# Altium schematic symbol library kmilo17pet-NSC_MiscPower.SchLib: 1552 symbols (part 22 of 43)
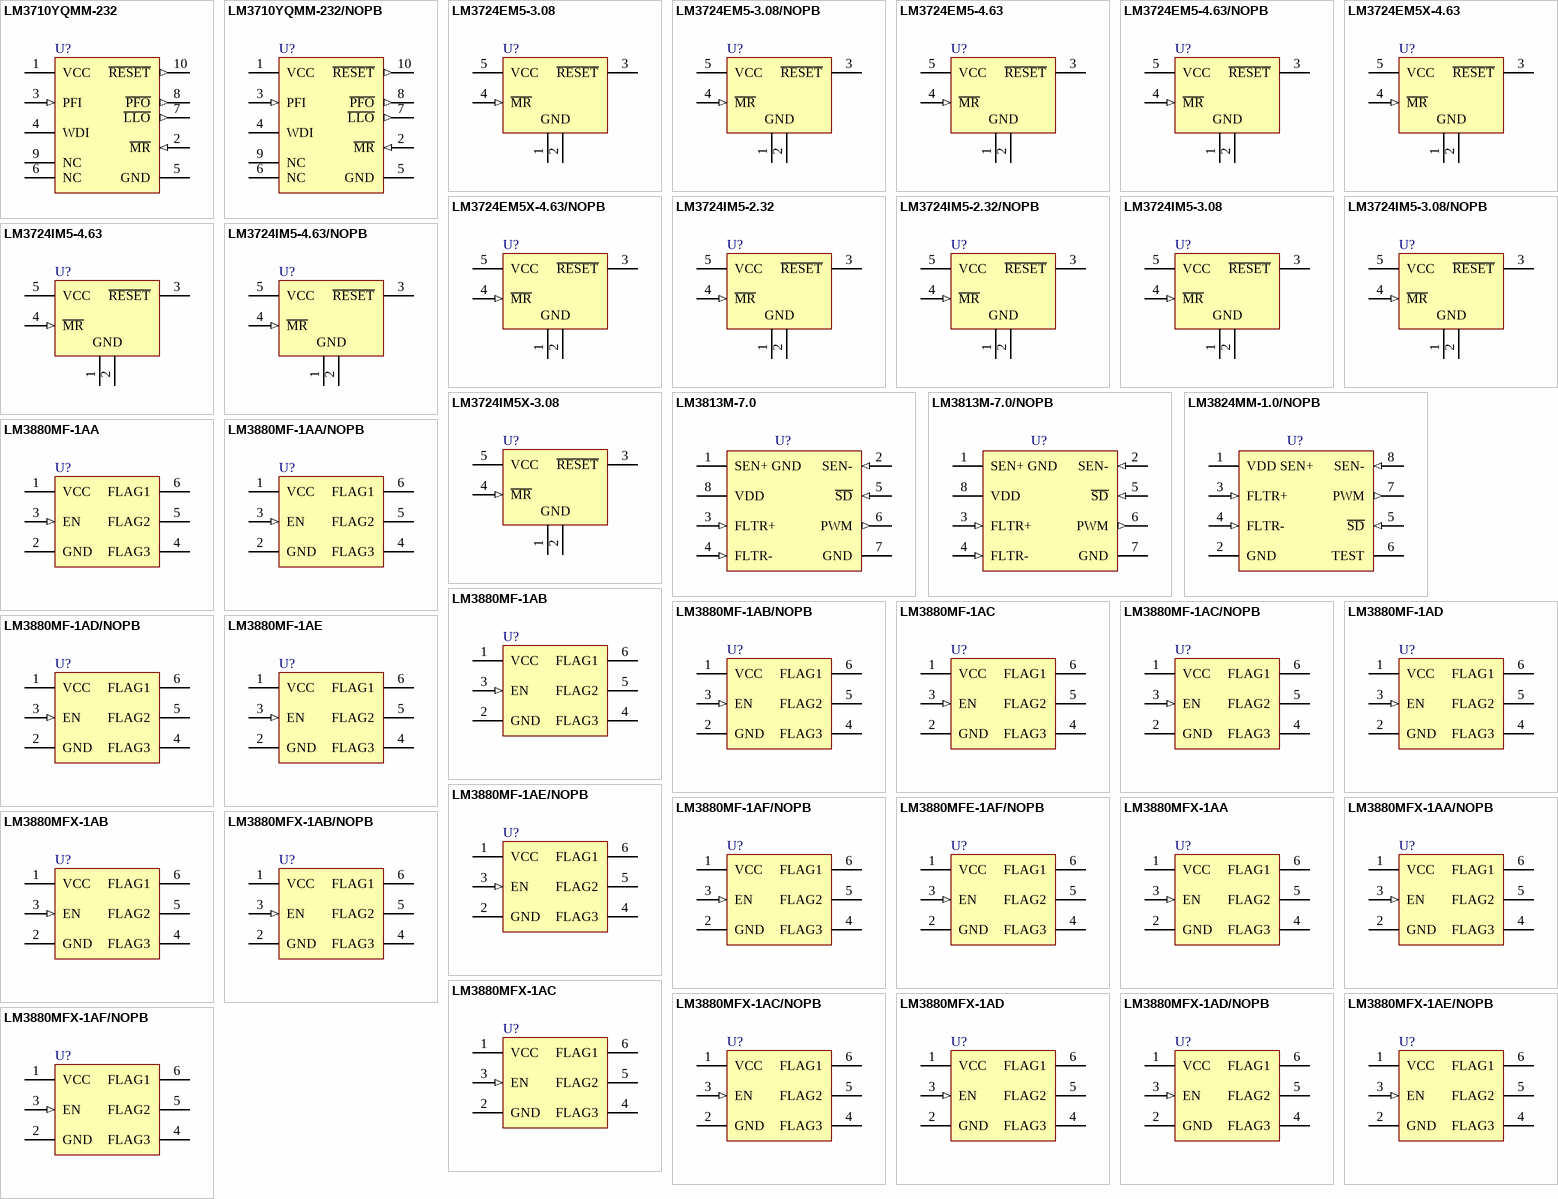
[diagram p78: symbols LM3710YQMM-232 to LM3880MFX-1AF/NOPB]

## LM3724EM5-4.63
designator U?
Microprocessor Reset Circuits, 5-pin SOT-23; PartNumber: LM3724EM5-4.63; Manufacturer: National Semiconductor; PackageTopMarking: R62B*XTT; PowerWise: N; CompType: MiscPower; High-Reliability: Y; DatasheetVersion: Jul-2007; PackageVersion: revD, Aug-2008; PackageReference: MF05A; PackageDescription: Molded SOT-23, .115 x .063 x .040 in Body, 5 Lead, .0375 in Pitch; RoHS: N; PinCount: 5; ComponentLink1Description: Manufacturer URL; ComponentLink1URL: http://www.national.com/; ComponentLink2Description: LM3724 Datasheet; ComponentLink2URL: http://www.national.com/ds/LM/LM3724.pdf; ComponentLink3Description: LM3724 Web Page; ComponentLink3URL: http://www.national.com/pf/LM/LM3724.html; ComponentLink4Description: MF05A Package Page; ComponentLink4URL: http://www.national.com/packaging/folders/mf05a.html
footprint MF05A_N (SOT23, 5-Leads, Body 2.9x1.6mm, Pitch 0.95mm, Lead Span 2.8mm, IPC Medium Density)
footprint MF05A_L (SOT23, 5-Leads, Body 2.9x1.6mm, Pitch 0.95mm, Lead Span 2.8mm, IPC High Density)
footprint MF05A_M (SOT23, 5-Leads, Body 2.9x1.6mm, Pitch 0.95mm, Lead Span 2.8mm, IPC Low Density)
pins: 1 GND (power), 2 GND (power), 3 ~{RESET} (oc), 4 ~{MR} (in), 5 VCC (power)

## LM3724EM5-4.63/NOPB
designator U?
5-Pin Microprocessor Reset Circuits, 5-pin SOT-23, Pb-Free; PartNumber: LM3724EM5-4.63/NOPB; Manufacturer: National Semiconductor; PackageTopMarking: R62B*XTT; PowerWise: N; CompType: MiscPower; High-Reliability: Y; DatasheetVersion: Jul-2007; PackageVersion: revD, Aug-2008; PackageReference: MF05A; PackageDescription: Molded SOT-23, .115 x .063 x .040 in Body, 5 Lead, .0375 in Pitch; RoHS: Y; PinCount: 5; ComponentLink1Description: Manufacturer URL; ComponentLink1URL: http://www.national.com/; ComponentLink2Description: LM3724 Datasheet; ComponentLink2URL: http://www.national.com/ds/LM/LM3724.pdf; ComponentLink3Description: LM3724 Web Page; ComponentLink3URL: http://www.national.com/pf/LM/LM3724.html; ComponentLink4Description: MF05A Package Page; ComponentLink4URL: http://www.national.com/packaging/folders/mf05a.html
footprint MF05A_N (SOT23, 5-Leads, Body 2.9x1.6mm, Pitch 0.95mm, Lead Span 2.8mm, IPC Medium Density)
footprint MF05A_L (SOT23, 5-Leads, Body 2.9x1.6mm, Pitch 0.95mm, Lead Span 2.8mm, IPC High Density)
footprint MF05A_M (SOT23, 5-Leads, Body 2.9x1.6mm, Pitch 0.95mm, Lead Span 2.8mm, IPC Low Density)
pins: 1 GND (power), 2 GND (power), 3 ~{RESET} (oc), 4 ~{MR} (in), 5 VCC (power)

## LM3724EM5X-4.63
designator U?
5-Pin Microprocessor Reset Circuits, 5-pin SOT-23; PartNumber: LM3724EM5X-4.63; Manufacturer: National Semiconductor; PackageTopMarking: R62B*XTT; PowerWise: N; CompType: MiscPower; High-Reliability: Y; DatasheetVersion: Jul-2007; PackageVersion: revD, Aug-2008; PackageReference: MF05A; PackageDescription: Molded SOT-23, .115 x .063 x .040 in Body, 5 Lead, .0375 in Pitch; RoHS: N; PinCount: 5; ComponentLink1Description: Manufacturer URL; ComponentLink1URL: http://www.national.com/; ComponentLink2Description: LM3724 Datasheet; ComponentLink2URL: http://www.national.com/ds/LM/LM3724.pdf; ComponentLink3Description: LM3724 Web Page; ComponentLink3URL: http://www.national.com/pf/LM/LM3724.html; ComponentLink4Description: MF05A Package Page; ComponentLink4URL: http://www.national.com/packaging/folders/mf05a.html
footprint MF05A_N (SOT23, 5-Leads, Body 2.9x1.6mm, Pitch 0.95mm, Lead Span 2.8mm, IPC Medium Density)
footprint MF05A_L (SOT23, 5-Leads, Body 2.9x1.6mm, Pitch 0.95mm, Lead Span 2.8mm, IPC High Density)
footprint MF05A_M (SOT23, 5-Leads, Body 2.9x1.6mm, Pitch 0.95mm, Lead Span 2.8mm, IPC Low Density)
pins: 1 GND (power), 2 GND (power), 3 ~{RESET} (oc), 4 ~{MR} (in), 5 VCC (power)

## LM3724EM5X-4.63/NOPB
designator U?
5-Pin Microprocessor Reset Circuits, 5-pin SOT-23, Pb-Free; PartNumber: LM3724EM5X-4.63/NOPB; Manufacturer: National Semiconductor; PackageTopMarking: R62B*XTT; PowerWise: N; CompType: MiscPower; High-Reliability: Y; DatasheetVersion: Jul-2007; PackageVersion: revD, Aug-2008; PackageReference: MF05A; PackageDescription: Molded SOT-23, .115 x .063 x .040 in Body, 5 Lead, .0375 in Pitch; RoHS: Y; PinCount: 5; ComponentLink1Description: Manufacturer URL; ComponentLink1URL: http://www.national.com/; ComponentLink2Description: LM3724 Datasheet; ComponentLink2URL: http://www.national.com/ds/LM/LM3724.pdf; ComponentLink3Description: LM3724 Web Page; ComponentLink3URL: http://www.national.com/pf/LM/LM3724.html; ComponentLink4Description: MF05A Package Page; ComponentLink4URL: http://www.national.com/packaging/folders/mf05a.html
footprint MF05A_N (SOT23, 5-Leads, Body 2.9x1.6mm, Pitch 0.95mm, Lead Span 2.8mm, IPC Medium Density)
footprint MF05A_L (SOT23, 5-Leads, Body 2.9x1.6mm, Pitch 0.95mm, Lead Span 2.8mm, IPC High Density)
footprint MF05A_M (SOT23, 5-Leads, Body 2.9x1.6mm, Pitch 0.95mm, Lead Span 2.8mm, IPC Low Density)
pins: 1 GND (power), 2 GND (power), 3 ~{RESET} (oc), 4 ~{MR} (in), 5 VCC (power)

## LM3724IM5-2.32
designator U?
Microprocessor Reset Circuits, 5-pin SOT-23; PartNumber: LM3724IM5-2.32; Manufacturer: National Semiconductor; PackageTopMarking: R50B*XTT; PowerWise: N; CompType: MiscPower; High-Reliability: Y; DatasheetVersion: Jul-2007; PackageVersion: revD, Aug-2008; PackageReference: MF05A; PackageDescription: Molded SOT-23, .115 x .063 x .040 in Body, 5 Lead, .0375 in Pitch; RoHS: N; PinCount: 5; ComponentLink1Description: Manufacturer URL; ComponentLink1URL: http://www.national.com/; ComponentLink2Description: LM3724 Datasheet; ComponentLink2URL: http://www.national.com/ds/LM/LM3724.pdf; ComponentLink3Description: LM3724 Web Page; ComponentLink3URL: http://www.national.com/pf/LM/LM3724.html; ComponentLink4Description: MF05A Package Page; ComponentLink4URL: http://www.national.com/packaging/folders/mf05a.html
footprint MF05A_N (SOT23, 5-Leads, Body 2.9x1.6mm, Pitch 0.95mm, Lead Span 2.8mm, IPC Medium Density)
footprint MF05A_L (SOT23, 5-Leads, Body 2.9x1.6mm, Pitch 0.95mm, Lead Span 2.8mm, IPC High Density)
footprint MF05A_M (SOT23, 5-Leads, Body 2.9x1.6mm, Pitch 0.95mm, Lead Span 2.8mm, IPC Low Density)
pins: 1 GND (power), 2 GND (power), 3 ~{RESET} (oc), 4 ~{MR} (in), 5 VCC (power)

## LM3724IM5-2.32/NOPB
designator U?
5-Pin Microprocessor Reset Circuits, 5-pin SOT-23, Pb-Free; PartNumber: LM3724IM5-2.32/NOPB; Manufacturer: National Semiconductor; PackageTopMarking: R50B*XTT; PowerWise: N; CompType: MiscPower; High-Reliability: Y; DatasheetVersion: Jul-2007; PackageVersion: revD, Aug-2008; PackageReference: MF05A; PackageDescription: Molded SOT-23, .115 x .063 x .040 in Body, 5 Lead, .0375 in Pitch; RoHS: Y; PinCount: 5; ComponentLink1Description: Manufacturer URL; ComponentLink1URL: http://www.national.com/; ComponentLink2Description: LM3724 Datasheet; ComponentLink2URL: http://www.national.com/ds/LM/LM3724.pdf; ComponentLink3Description: LM3724 Web Page; ComponentLink3URL: http://www.national.com/pf/LM/LM3724.html; ComponentLink4Description: MF05A Package Page; ComponentLink4URL: http://www.national.com/packaging/folders/mf05a.html
footprint MF05A_N (SOT23, 5-Leads, Body 2.9x1.6mm, Pitch 0.95mm, Lead Span 2.8mm, IPC Medium Density)
footprint MF05A_L (SOT23, 5-Leads, Body 2.9x1.6mm, Pitch 0.95mm, Lead Span 2.8mm, IPC High Density)
footprint MF05A_M (SOT23, 5-Leads, Body 2.9x1.6mm, Pitch 0.95mm, Lead Span 2.8mm, IPC Low Density)
pins: 1 GND (power), 2 GND (power), 3 ~{RESET} (oc), 4 ~{MR} (in), 5 VCC (power)

## LM3724IM5-3.08
designator U?
Microprocessor Reset Circuits, 5-pin SOT-23; PartNumber: LM3724IM5-3.08; Manufacturer: National Semiconductor; PackageTopMarking: R53B*XTT; PowerWise: N; CompType: MiscPower; High-Reliability: Y; DatasheetVersion: Jul-2007; PackageVersion: revD, Aug-2008; PackageReference: MF05A; PackageDescription: Molded SOT-23, .115 x .063 x .040 in Body, 5 Lead, .0375 in Pitch; RoHS: N; PinCount: 5; ComponentLink1Description: Manufacturer URL; ComponentLink1URL: http://www.national.com/; ComponentLink2Description: LM3724 Datasheet; ComponentLink2URL: http://www.national.com/ds/LM/LM3724.pdf; ComponentLink3Description: LM3724 Web Page; ComponentLink3URL: http://www.national.com/pf/LM/LM3724.html; ComponentLink4Description: MF05A Package Page; ComponentLink4URL: http://www.national.com/packaging/folders/mf05a.html
footprint MF05A_N (SOT23, 5-Leads, Body 2.9x1.6mm, Pitch 0.95mm, Lead Span 2.8mm, IPC Medium Density)
footprint MF05A_L (SOT23, 5-Leads, Body 2.9x1.6mm, Pitch 0.95mm, Lead Span 2.8mm, IPC High Density)
footprint MF05A_M (SOT23, 5-Leads, Body 2.9x1.6mm, Pitch 0.95mm, Lead Span 2.8mm, IPC Low Density)
pins: 1 GND (power), 2 GND (power), 3 ~{RESET} (oc), 4 ~{MR} (in), 5 VCC (power)

## LM3724IM5-3.08/NOPB
designator U?
5-Pin Microprocessor Reset Circuits, 5-pin SOT-23, Pb-Free; PartNumber: LM3724IM5-3.08/NOPB; Manufacturer: National Semiconductor; PackageTopMarking: R53B*XTT; PowerWise: N; CompType: MiscPower; High-Reliability: Y; DatasheetVersion: Jul-2007; PackageVersion: revD, Aug-2008; PackageReference: MF05A; PackageDescription: Molded SOT-23, .115 x .063 x .040 in Body, 5 Lead, .0375 in Pitch; RoHS: Y; PinCount: 5; ComponentLink1Description: Manufacturer URL; ComponentLink1URL: http://www.national.com/; ComponentLink2Description: LM3724 Datasheet; ComponentLink2URL: http://www.national.com/ds/LM/LM3724.pdf; ComponentLink3Description: LM3724 Web Page; ComponentLink3URL: http://www.national.com/pf/LM/LM3724.html; ComponentLink4Description: MF05A Package Page; ComponentLink4URL: http://www.national.com/packaging/folders/mf05a.html
footprint MF05A_N (SOT23, 5-Leads, Body 2.9x1.6mm, Pitch 0.95mm, Lead Span 2.8mm, IPC Medium Density)
footprint MF05A_L (SOT23, 5-Leads, Body 2.9x1.6mm, Pitch 0.95mm, Lead Span 2.8mm, IPC High Density)
footprint MF05A_M (SOT23, 5-Leads, Body 2.9x1.6mm, Pitch 0.95mm, Lead Span 2.8mm, IPC Low Density)
pins: 1 GND (power), 2 GND (power), 3 ~{RESET} (oc), 4 ~{MR} (in), 5 VCC (power)

## LM3724IM5-4.63
designator U?
Microprocessor Reset Circuits, 5-pin SOT-23; PartNumber: LM3724IM5-4.63; Manufacturer: National Semiconductor; PackageTopMarking: R55B*XTT; PowerWise: N; CompType: MiscPower; High-Reliability: Y; DatasheetVersion: Jul-2007; PackageVersion: revD, Aug-2008; PackageReference: MF05A; PackageDescription: Molded SOT-23, .115 x .063 x .040 in Body, 5 Lead, .0375 in Pitch; RoHS: N; PinCount: 5; ComponentLink1Description: Manufacturer URL; ComponentLink1URL: http://www.national.com/; ComponentLink2Description: LM3724 Datasheet; ComponentLink2URL: http://www.national.com/ds/LM/LM3724.pdf; ComponentLink3Description: LM3724 Web Page; ComponentLink3URL: http://www.national.com/pf/LM/LM3724.html; ComponentLink4Description: MF05A Package Page; ComponentLink4URL: http://www.national.com/packaging/folders/mf05a.html
footprint MF05A_N (SOT23, 5-Leads, Body 2.9x1.6mm, Pitch 0.95mm, Lead Span 2.8mm, IPC Medium Density)
footprint MF05A_L (SOT23, 5-Leads, Body 2.9x1.6mm, Pitch 0.95mm, Lead Span 2.8mm, IPC High Density)
footprint MF05A_M (SOT23, 5-Leads, Body 2.9x1.6mm, Pitch 0.95mm, Lead Span 2.8mm, IPC Low Density)
pins: 1 GND (power), 2 GND (power), 3 ~{RESET} (oc), 4 ~{MR} (in), 5 VCC (power)

## LM3724IM5-4.63/NOPB
designator U?
5-Pin Microprocessor Reset Circuits, 5-pin SOT-23, Pb-Free; PartNumber: LM3724IM5-4.63/NOPB; Manufacturer: National Semiconductor; PackageTopMarking: R55B*XTT; PowerWise: N; CompType: MiscPower; High-Reliability: Y; DatasheetVersion: Jul-2007; PackageVersion: revD, Aug-2008; PackageReference: MF05A; PackageDescription: Molded SOT-23, .115 x .063 x .040 in Body, 5 Lead, .0375 in Pitch; RoHS: Y; PinCount: 5; ComponentLink1Description: Manufacturer URL; ComponentLink1URL: http://www.national.com/; ComponentLink2Description: LM3724 Datasheet; ComponentLink2URL: http://www.national.com/ds/LM/LM3724.pdf; ComponentLink3Description: LM3724 Web Page; ComponentLink3URL: http://www.national.com/pf/LM/LM3724.html; ComponentLink4Description: MF05A Package Page; ComponentLink4URL: http://www.national.com/packaging/folders/mf05a.html
footprint MF05A_N (SOT23, 5-Leads, Body 2.9x1.6mm, Pitch 0.95mm, Lead Span 2.8mm, IPC Medium Density)
footprint MF05A_L (SOT23, 5-Leads, Body 2.9x1.6mm, Pitch 0.95mm, Lead Span 2.8mm, IPC High Density)
footprint MF05A_M (SOT23, 5-Leads, Body 2.9x1.6mm, Pitch 0.95mm, Lead Span 2.8mm, IPC Low Density)
pins: 1 GND (power), 2 GND (power), 3 ~{RESET} (oc), 4 ~{MR} (in), 5 VCC (power)

## LM3724IM5X-3.08
designator U?
5-Pin Microprocessor Reset Circuits, 5-pin SOT-23; PartNumber: LM3724IM5X-3.08; Manufacturer: National Semiconductor; PackageTopMarking: R53B*XTT; PowerWise: N; CompType: MiscPower; High-Reliability: Y; DatasheetVersion: Jul-2007; PackageVersion: revD, Aug-2008; PackageReference: MF05A; PackageDescription: Molded SOT-23, .115 x .063 x .040 in Body, 5 Lead, .0375 in Pitch; RoHS: N; PinCount: 5; ComponentLink1Description: Manufacturer URL; ComponentLink1URL: http://www.national.com/; ComponentLink2Description: LM3724 Datasheet; ComponentLink2URL: http://www.national.com/ds/LM/LM3724.pdf; ComponentLink3Description: LM3724 Web Page; ComponentLink3URL: http://www.national.com/pf/LM/LM3724.html; ComponentLink4Description: MF05A Package Page; ComponentLink4URL: http://www.national.com/packaging/folders/mf05a.html
footprint MF05A_N (SOT23, 5-Leads, Body 2.9x1.6mm, Pitch 0.95mm, Lead Span 2.8mm, IPC Medium Density)
footprint MF05A_L (SOT23, 5-Leads, Body 2.9x1.6mm, Pitch 0.95mm, Lead Span 2.8mm, IPC High Density)
footprint MF05A_M (SOT23, 5-Leads, Body 2.9x1.6mm, Pitch 0.95mm, Lead Span 2.8mm, IPC Low Density)
pins: 1 GND (power), 2 GND (power), 3 ~{RESET} (oc), 4 ~{MR} (in), 5 VCC (power)

## LM3813M-7.0
designator U?
Precision Current Gauge IC with Ultra Low Loss Sense Element and PWM Output, for Low-Side Sensing, 8-pin Narrow SOIC; PartNumber: LM3813M-7.0; Manufacturer: National Semiconductor; PackageTopMarking: NSZXTT*3813*M-7.0; PowerWise: N; CompType: MiscPower; High-Reliability: Y; DatasheetVersion: Feb-2005; PackageVersion: revM, May-2009; PackageReference: M08A; PackageDescription: SOIC Narrow, 4.9 x 3.9 x 1.45mm, 8 Lead, 1.27mm Pitch; RoHS: N; PinCount: 8; Code_JEDEC: MS-012-AA; Code_IPC: SOIC127P600-8; ComponentLink1Description: Manufacturer URL; ComponentLink1URL: http://www.national.com/; ComponentLink2Description: LM3813 Datasheet; ComponentLink2URL: http://www.national.com/ds/LM/LM3813.pdf; ComponentLink3Description: LM3813 Web Page; ComponentLink3URL: http://www.national.com/pf/LM/LM3813.html; ComponentLink4Description: M08A Package Page; ComponentLink4URL: http://www.national.com/packaging/folders/m08a.html
footprint M08A_N (SOIC, 8-Leads, Body 4.9x3.9mm, Pitch 1.27mm, IPC Medium Density)
footprint M08A_L (SOIC, 8-Leads, Body 4.9x3.9mm, Pitch 1.27mm, IPC High Density)
footprint M08A_M (SOIC, 8-Leads, Body 4.9x3.9mm, Pitch 1.27mm, IPC Low Density)
pins: 1 SEN+ GND (power), 2 SEN- (in), 3 FLTR+ (in), 4 FLTR- (in), 5 ~{SD} (in), 6 PWM (out), 7 GND (power), 8 VDD (power)

## LM3813M-7.0/NOPB
designator U?
Precision Current Gauge IC with Ultra Low Loss Sense Element and PWM Output, for Low-Side Sensing, 8-pin Narrow SOIC, Pb-Free; PartNumber: LM3813M-7.0/NOPB; Manufacturer: National Semiconductor; PackageTopMarking: NSZXTT*3813*M-7.0; PowerWise: N; CompType: MiscPower; High-Reliability: Y; DatasheetVersion: Feb-2005; PackageVersion: revM, May-2009; PackageReference: M08A; PackageDescription: SOIC Narrow, 4.9 x 3.9 x 1.45mm, 8 Lead, 1.27mm Pitch; RoHS: Y; PinCount: 8; Code_JEDEC: MS-012-AA; Code_IPC: SOIC127P600-8; ComponentLink1Description: Manufacturer URL; ComponentLink1URL: http://www.national.com/; ComponentLink2Description: LM3813 Datasheet; ComponentLink2URL: http://www.national.com/ds/LM/LM3813.pdf; ComponentLink3Description: LM3813 Web Page; ComponentLink3URL: http://www.national.com/pf/LM/LM3813.html; ComponentLink4Description: M08A Package Page; ComponentLink4URL: http://www.national.com/packaging/folders/m08a.html
footprint M08A_N (SOIC, 8-Leads, Body 4.9x3.9mm, Pitch 1.27mm, IPC Medium Density)
footprint M08A_L (SOIC, 8-Leads, Body 4.9x3.9mm, Pitch 1.27mm, IPC High Density)
footprint M08A_M (SOIC, 8-Leads, Body 4.9x3.9mm, Pitch 1.27mm, IPC Low Density)
pins: 1 SEN+ GND (power), 2 SEN- (in), 3 FLTR+ (in), 4 FLTR- (in), 5 ~{SD} (in), 6 PWM (out), 7 GND (power), 8 VDD (power)

## LM3824MM-1.0/NOPB
designator U?
Precision Current Gauge IC with Internal Zero Ohm Sense Element and PWM Output, 8-pin MSOP, Pb-Free; PartNumber: LM3824MM-1.0/NOPB; Manufacturer: National Semiconductor; PackageTopMarking: ZXTT*R24B; PowerWise: N; CompType: MiscPower; High-Reliability: Y; DatasheetVersion: Jul-2000; PackageVersion: revF, Apr-2008; PackageReference: MUA08A; PackageDescription: MINI SOIC, .118 x .118 x .034in, 8 Lead, .0256in Pitch; RoHS: Y; PinCount: 8; Code_JEDEC: MO-187-AA; ComponentLink1Description: Manufacturer URL; ComponentLink1URL: http://www.national.com/; ComponentLink2Description: LM3824 Datasheet; ComponentLink2URL: http://www.national.com/ds/LM/LM3824.pdf; ComponentLink3Description: LM3824 Web Page; ComponentLink3URL: http://www.national.com/pf/LM/LM3824.html; ComponentLink4Description: MUA08A Package Page; ComponentLink4URL: http://www.national.com/packaging/folders/mua08a.html
footprint MUA08A_N (TSOP, 8-Leads, Body 3x3mm, Pitch 0.65mm, IPC Medium Density)
footprint MUA08A_L (TSOP, 8-Leads, Body 3x3mm, Pitch 0.65mm, IPC High Density)
footprint MUA08A_M (TSOP, 8-Leads, Body 3x3mm, Pitch 0.65mm, IPC Low Density)
pins: 1 VDD SEN+ (power), 2 GND (power), 3 FLTR+ (in), 4 FLTR- (in), 5 ~{SD} (in), 6 TEST (power), 7 PWM (out), 8 SEN- (in)

## LM3880MF-1AA
designator U?
Power Sequencer, 6-pin SOT-23, 1000 Reel; PartNumber: LM3880MF-1AA; Manufacturer: National Semiconductor; PackageTopMarking: F20A*XTT; PowerWise: N; CompType: MiscPower; High-Reliability: Y; DatasheetVersion: Jul-2011; PackageVersion: revC, Sep-2005; PackageReference: MF06A; PackageDescription: Molded SOT-23, .115 x .063 x .040in Body, 6 Lead, .0375in in Pitch; RoHS: N; PinCount: 6; Code_JEDEC: MO-178-AB; Code_IPC: SOT26A-6; ComponentLink1Description: Manufacturer URL; ComponentLink1URL: http://www.national.com/; ComponentLink2Description: LM3880 Datasheet; ComponentLink2URL: http://www.national.com/ds/LM/LM3880.pdf; ComponentLink3Description: LM3880 Web Page; ComponentLink3URL: http://www.national.com/pf/LM/LM3880.html; ComponentLink4Description: MF06A Package Page; ComponentLink4URL: http://www.national.com/packaging/folders/mf06a.html
footprint MF06A_N (SOT23, 6-Leads, Body 2.9x1.6mm, Pitch 0.95mm, Lead Span 2.8mm, IPC Medium Density)
footprint MF06A_L (SOT23, 6-Leads, Body 2.9x1.6mm, Pitch 0.95mm, Lead Span 2.8mm, IPC High Density)
footprint MF06A_M (SOT23, 6-Leads, Body 2.9x1.6mm, Pitch 0.95mm, Lead Span 2.8mm, IPC Low Density)
pins: 1 VCC (power), 2 GND (power), 3 EN (in), 4 FLAG3 (oc), 5 FLAG2 (oc), 6 FLAG1 (oc)

## LM3880MF-1AA/NOPB
designator U?
Power Sequencer, 6-pin SOT-23, Pb-Free, 1000 Reel; PartNumber: LM3880MF-1AA/NOPB; Manufacturer: National Semiconductor; PackageTopMarking: F20A*XTT; PowerWise: N; CompType: MiscPower; High-Reliability: Y; DatasheetVersion: Jul-2011; PackageVersion: revC, Sep-2005; PackageReference: MF06A; PackageDescription: Molded SOT-23, .115 x .063 x .040in Body, 6 Lead, .0375in in Pitch; RoHS: Y; PinCount: 6; Code_JEDEC: MO-178-AB; Code_IPC: SOT26A-6; ComponentLink1Description: Manufacturer URL; ComponentLink1URL: http://www.national.com/; ComponentLink2Description: LM3880 Datasheet; ComponentLink2URL: http://www.national.com/ds/LM/LM3880.pdf; ComponentLink3Description: LM3880 Web Page; ComponentLink3URL: http://www.national.com/pf/LM/LM3880.html; ComponentLink4Description: MF06A Package Page; ComponentLink4URL: http://www.national.com/packaging/folders/mf06a.html
footprint MF06A_N (SOT23, 6-Leads, Body 2.9x1.6mm, Pitch 0.95mm, Lead Span 2.8mm, IPC Medium Density)
footprint MF06A_L (SOT23, 6-Leads, Body 2.9x1.6mm, Pitch 0.95mm, Lead Span 2.8mm, IPC High Density)
footprint MF06A_M (SOT23, 6-Leads, Body 2.9x1.6mm, Pitch 0.95mm, Lead Span 2.8mm, IPC Low Density)
pins: 1 VCC (power), 2 GND (power), 3 EN (in), 4 FLAG3 (oc), 5 FLAG2 (oc), 6 FLAG1 (oc)

## LM3880MF-1AB
designator U?
Power Sequencer, 6-pin SOT-23; PartNumber: LM3880MF-1AB; Manufacturer: National Semiconductor; PackageTopMarking: F21A*XTT; PowerWise: N; CompType: MiscPower; High-Reliability: Y; DatasheetVersion: May-2008; PackageVersion: revC, Sep-2005; PackageReference: MF06A; PackageDescription: Molded SOT-23, .115 x .063 x .040in Body, 6 Lead, .0375in in Pitch; RoHS: N; PinCount: 6; Code_JEDEC: MO-178-AB; Code_IPC: SOT26A-6; ComponentLink1Description: Manufacturer URL; ComponentLink1URL: http://www.national.com/; ComponentLink2Description: LM3880 Datasheet; ComponentLink2URL: http://www.national.com/ds/LM/LM3880.pdf; ComponentLink3Description: LM3880 Web Page; ComponentLink3URL: http://www.national.com/pf/LM/LM3880.html; ComponentLink4Description: MF06A Package Page; ComponentLink4URL: http://www.national.com/packaging/folders/mf06a.html
footprint MF06A_N (SOT23, 6-Leads, Body 2.9x1.6mm, Pitch 0.95mm, Lead Span 2.8mm, IPC Medium Density)
footprint MF06A_L (SOT23, 6-Leads, Body 2.9x1.6mm, Pitch 0.95mm, Lead Span 2.8mm, IPC High Density)
footprint MF06A_M (SOT23, 6-Leads, Body 2.9x1.6mm, Pitch 0.95mm, Lead Span 2.8mm, IPC Low Density)
pins: 1 VCC (power), 2 GND (power), 3 EN (in), 4 FLAG3 (oc), 5 FLAG2 (oc), 6 FLAG1 (oc)

## LM3880MF-1AB/NOPB
designator U?
Power Sequencer, 6-pin SOT-23, Pb-Free, 1000 Reel; PartNumber: LM3880MF-1AB/NOPB; Manufacturer: National Semiconductor; PackageTopMarking: F21A*XTT; PowerWise: N; CompType: MiscPower; High-Reliability: Y; DatasheetVersion: Jul-2011; PackageVersion: revC, Sep-2005; PackageReference: MF06A; PackageDescription: Molded SOT-23, .115 x .063 x .040in Body, 6 Lead, .0375in in Pitch; RoHS: Y; PinCount: 6; Code_JEDEC: MO-178-AB; Code_IPC: SOT26A-6; ComponentLink1Description: Manufacturer URL; ComponentLink1URL: http://www.national.com/; ComponentLink2Description: LM3880 Datasheet; ComponentLink2URL: http://www.national.com/ds/LM/LM3880.pdf; ComponentLink3Description: LM3880 Web Page; ComponentLink3URL: http://www.national.com/pf/LM/LM3880.html; ComponentLink4Description: MF06A Package Page; ComponentLink4URL: http://www.national.com/packaging/folders/mf06a.html
footprint MF06A_N (SOT23, 6-Leads, Body 2.9x1.6mm, Pitch 0.95mm, Lead Span 2.8mm, IPC Medium Density)
footprint MF06A_L (SOT23, 6-Leads, Body 2.9x1.6mm, Pitch 0.95mm, Lead Span 2.8mm, IPC High Density)
footprint MF06A_M (SOT23, 6-Leads, Body 2.9x1.6mm, Pitch 0.95mm, Lead Span 2.8mm, IPC Low Density)
pins: 1 VCC (power), 2 GND (power), 3 EN (in), 4 FLAG3 (oc), 5 FLAG2 (oc), 6 FLAG1 (oc)

## LM3880MF-1AC
designator U?
Power Sequencer, 6-pin SOT-23; PartNumber: LM3880MF-1AC; Manufacturer: National Semiconductor; PackageTopMarking: F22A*XTT; PowerWise: N; CompType: MiscPower; High-Reliability: Y; DatasheetVersion: May-2008; PackageVersion: revC, Sep-2005; PackageReference: MF06A; PackageDescription: Molded SOT-23, .115 x .063 x .040in Body, 6 Lead, .0375in in Pitch; RoHS: N; PinCount: 6; Code_JEDEC: MO-178-AB; Code_IPC: SOT26A-6; ComponentLink1Description: Manufacturer URL; ComponentLink1URL: http://www.national.com/; ComponentLink2Description: LM3880 Datasheet; ComponentLink2URL: http://www.national.com/ds/LM/LM3880.pdf; ComponentLink3Description: LM3880 Web Page; ComponentLink3URL: http://www.national.com/pf/LM/LM3880.html; ComponentLink4Description: MF06A Package Page; ComponentLink4URL: http://www.national.com/packaging/folders/mf06a.html
footprint MF06A_N (SOT23, 6-Leads, Body 2.9x1.6mm, Pitch 0.95mm, Lead Span 2.8mm, IPC Medium Density)
footprint MF06A_L (SOT23, 6-Leads, Body 2.9x1.6mm, Pitch 0.95mm, Lead Span 2.8mm, IPC High Density)
footprint MF06A_M (SOT23, 6-Leads, Body 2.9x1.6mm, Pitch 0.95mm, Lead Span 2.8mm, IPC Low Density)
pins: 1 VCC (power), 2 GND (power), 3 EN (in), 4 FLAG3 (oc), 5 FLAG2 (oc), 6 FLAG1 (oc)

## LM3880MF-1AC/NOPB
designator U?
Power Sequencer, 6-pin SOT-23, Pb-Free, 1000 Reel; PartNumber: LM3880MF-1AC/NOPB; Manufacturer: National Semiconductor; PackageTopMarking: F22A*XTT; PowerWise: N; CompType: MiscPower; High-Reliability: Y; DatasheetVersion: Jul-2011; PackageVersion: revC, Sep-2005; PackageReference: MF06A; PackageDescription: Molded SOT-23, .115 x .063 x .040in Body, 6 Lead, .0375in in Pitch; RoHS: Y; PinCount: 6; Code_JEDEC: MO-178-AB; Code_IPC: SOT26A-6; ComponentLink1Description: Manufacturer URL; ComponentLink1URL: http://www.national.com/; ComponentLink2Description: LM3880 Datasheet; ComponentLink2URL: http://www.national.com/ds/LM/LM3880.pdf; ComponentLink3Description: LM3880 Web Page; ComponentLink3URL: http://www.national.com/pf/LM/LM3880.html; ComponentLink4Description: MF06A Package Page; ComponentLink4URL: http://www.national.com/packaging/folders/mf06a.html
footprint MF06A_N (SOT23, 6-Leads, Body 2.9x1.6mm, Pitch 0.95mm, Lead Span 2.8mm, IPC Medium Density)
footprint MF06A_L (SOT23, 6-Leads, Body 2.9x1.6mm, Pitch 0.95mm, Lead Span 2.8mm, IPC High Density)
footprint MF06A_M (SOT23, 6-Leads, Body 2.9x1.6mm, Pitch 0.95mm, Lead Span 2.8mm, IPC Low Density)
pins: 1 VCC (power), 2 GND (power), 3 EN (in), 4 FLAG3 (oc), 5 FLAG2 (oc), 6 FLAG1 (oc)

## LM3880MF-1AD
designator U?
Power Sequencer, 6-pin SOT-23; PartNumber: LM3880MF-1AD; Manufacturer: National Semiconductor; PackageTopMarking: F23A*XTT; PowerWise: N; CompType: MiscPower; High-Reliability: Y; DatasheetVersion: May-2008; PackageVersion: revC, Sep-2005; PackageReference: MF06A; PackageDescription: Molded SOT-23, .115 x .063 x .040in Body, 6 Lead, .0375in in Pitch; RoHS: N; PinCount: 6; Code_JEDEC: MO-178-AB; Code_IPC: SOT26A-6; ComponentLink1Description: Manufacturer URL; ComponentLink1URL: http://www.national.com/; ComponentLink2Description: LM3880 Datasheet; ComponentLink2URL: http://www.national.com/ds/LM/LM3880.pdf; ComponentLink3Description: LM3880 Web Page; ComponentLink3URL: http://www.national.com/pf/LM/LM3880.html; ComponentLink4Description: MF06A Package Page; ComponentLink4URL: http://www.national.com/packaging/folders/mf06a.html
footprint MF06A_N (SOT23, 6-Leads, Body 2.9x1.6mm, Pitch 0.95mm, Lead Span 2.8mm, IPC Medium Density)
footprint MF06A_L (SOT23, 6-Leads, Body 2.9x1.6mm, Pitch 0.95mm, Lead Span 2.8mm, IPC High Density)
footprint MF06A_M (SOT23, 6-Leads, Body 2.9x1.6mm, Pitch 0.95mm, Lead Span 2.8mm, IPC Low Density)
pins: 1 VCC (power), 2 GND (power), 3 EN (in), 4 FLAG3 (oc), 5 FLAG2 (oc), 6 FLAG1 (oc)

## LM3880MF-1AD/NOPB
designator U?
Power Sequencer, 6-pin SOT-23, Pb-Free, 1000 Reel; PartNumber: LM3880MF-1AD/NOPB; Manufacturer: National Semiconductor; PackageTopMarking: F23A*XTT; PowerWise: N; CompType: MiscPower; High-Reliability: Y; DatasheetVersion: Jul-2011; PackageVersion: revC, Sep-2005; PackageReference: MF06A; PackageDescription: Molded SOT-23, .115 x .063 x .040in Body, 6 Lead, .0375in in Pitch; RoHS: Y; PinCount: 6; Code_JEDEC: MO-178-AB; Code_IPC: SOT26A-6; ComponentLink1Description: Manufacturer URL; ComponentLink1URL: http://www.national.com/; ComponentLink2Description: LM3880 Datasheet; ComponentLink2URL: http://www.national.com/ds/LM/LM3880.pdf; ComponentLink3Description: LM3880 Web Page; ComponentLink3URL: http://www.national.com/pf/LM/LM3880.html; ComponentLink4Description: MF06A Package Page; ComponentLink4URL: http://www.national.com/packaging/folders/mf06a.html
footprint MF06A_N (SOT23, 6-Leads, Body 2.9x1.6mm, Pitch 0.95mm, Lead Span 2.8mm, IPC Medium Density)
footprint MF06A_L (SOT23, 6-Leads, Body 2.9x1.6mm, Pitch 0.95mm, Lead Span 2.8mm, IPC High Density)
footprint MF06A_M (SOT23, 6-Leads, Body 2.9x1.6mm, Pitch 0.95mm, Lead Span 2.8mm, IPC Low Density)
pins: 1 VCC (power), 2 GND (power), 3 EN (in), 4 FLAG3 (oc), 5 FLAG2 (oc), 6 FLAG1 (oc)

## LM3880MF-1AE
designator U?
Power Sequencer, 6-pin SOT-23; PartNumber: LM3880MF-1AE; Manufacturer: National Semiconductor; PackageTopMarking: F25A*XTT; PowerWise: N; CompType: MiscPower; High-Reliability: Y; DatasheetVersion: May-2008; PackageVersion: revC, Sep-2005; PackageReference: MF06A; PackageDescription: Molded SOT-23, .115 x .063 x .040in Body, 6 Lead, .0375in in Pitch; RoHS: Y; PinCount: 6; Code_JEDEC: MO-178-AB; Code_IPC: SOT26A-6; ComponentLink1Description: Manufacturer URL; ComponentLink1URL: http://www.national.com/; ComponentLink2Description: LM3880 Datasheet; ComponentLink2URL: http://www.national.com/ds/LM/LM3880.pdf; ComponentLink3Description: LM3880 Web Page; ComponentLink3URL: http://www.national.com/pf/LM/LM3880.html; ComponentLink4Description: MF06A Package Page; ComponentLink4URL: http://www.national.com/packaging/folders/mf06a.html
footprint MF06A_N (SOT23, 6-Leads, Body 2.9x1.6mm, Pitch 0.95mm, Lead Span 2.8mm, IPC Medium Density)
footprint MF06A_L (SOT23, 6-Leads, Body 2.9x1.6mm, Pitch 0.95mm, Lead Span 2.8mm, IPC High Density)
footprint MF06A_M (SOT23, 6-Leads, Body 2.9x1.6mm, Pitch 0.95mm, Lead Span 2.8mm, IPC Low Density)
pins: 1 VCC (power), 2 GND (power), 3 EN (in), 4 FLAG3 (oc), 5 FLAG2 (oc), 6 FLAG1 (oc)

## LM3880MF-1AE/NOPB
designator U?
Power Sequencer, 6-pin SOT-23, Pb-Free, 1000 Reel; PartNumber: LM3880MF-1AE/NOPB; Manufacturer: National Semiconductor; PackageTopMarking: F25A*XTT; PowerWise: N; CompType: MiscPower; High-Reliability: Y; DatasheetVersion: Jul-2011; PackageVersion: revC, Sep-2005; PackageReference: MF06A; PackageDescription: Molded SOT-23, .115 x .063 x .040in Body, 6 Lead, .0375in in Pitch; RoHS: Y; PinCount: 6; Code_JEDEC: MO-178-AB; Code_IPC: SOT26A-6; ComponentLink1Description: Manufacturer URL; ComponentLink1URL: http://www.national.com/; ComponentLink2Description: LM3880 Datasheet; ComponentLink2URL: http://www.national.com/ds/LM/LM3880.pdf; ComponentLink3Description: LM3880 Web Page; ComponentLink3URL: http://www.national.com/pf/LM/LM3880.html; ComponentLink4Description: MF06A Package Page; ComponentLink4URL: http://www.national.com/packaging/folders/mf06a.html
footprint MF06A_N (SOT23, 6-Leads, Body 2.9x1.6mm, Pitch 0.95mm, Lead Span 2.8mm, IPC Medium Density)
footprint MF06A_L (SOT23, 6-Leads, Body 2.9x1.6mm, Pitch 0.95mm, Lead Span 2.8mm, IPC High Density)
footprint MF06A_M (SOT23, 6-Leads, Body 2.9x1.6mm, Pitch 0.95mm, Lead Span 2.8mm, IPC Low Density)
pins: 1 VCC (power), 2 GND (power), 3 EN (in), 4 FLAG3 (oc), 5 FLAG2 (oc), 6 FLAG1 (oc)

## LM3880MF-1AF/NOPB
designator U?
Power Sequencer, 6-pin SOT-23, 1000 Reel; PartNumber: LM3880MF-1AF/NOPB; Manufacturer: National Semiconductor; PackageTopMarking: F31A*XTT; PowerWise: N; CompType: MiscPower; High-Reliability: Y; DatasheetVersion: Jul-2011; PackageVersion: revC, Sep-2005; PackageReference: MF06A; PackageDescription: Molded SOT-23, .115 x .063 x .040in Body, 6 Lead, .0375in in Pitch; RoHS: Y; PinCount: 6; Code_JEDEC: MO-178-AB; Code_IPC: SOT26A-6; ComponentLink1Description: Manufacturer URL; ComponentLink1URL: http://www.national.com/; ComponentLink2Description: LM3880 Datasheet; ComponentLink2URL: http://www.national.com/ds/LM/LM3880.pdf; ComponentLink3Description: LM3880 Web Page; ComponentLink3URL: http://www.national.com/pf/LM/LM3880.html; ComponentLink4Description: MF06A Package Page; ComponentLink4URL: http://www.national.com/packaging/folders/mf06a.html
footprint MF06A_N (SOT23, 6-Leads, Body 2.9x1.6mm, Pitch 0.95mm, Lead Span 2.8mm, IPC Medium Density)
footprint MF06A_L (SOT23, 6-Leads, Body 2.9x1.6mm, Pitch 0.95mm, Lead Span 2.8mm, IPC High Density)
footprint MF06A_M (SOT23, 6-Leads, Body 2.9x1.6mm, Pitch 0.95mm, Lead Span 2.8mm, IPC Low Density)
pins: 1 VCC (power), 2 GND (power), 3 EN (in), 4 FLAG3 (oc), 5 FLAG2 (oc), 6 FLAG1 (oc)

## LM3880MFE-1AF/NOPB
designator U?
Power Sequencer, 6-pin SOT-23, 250 Reel; PartNumber: LM3880MFE-1AF/NOPB; Manufacturer: National Semiconductor; PackageTopMarking: F31A*XTT; PowerWise: N; CompType: MiscPower; High-Reliability: Y; DatasheetVersion: Jul-2011; PackageVersion: revC, Sep-2005; PackageReference: MF06A; PackageDescription: Molded SOT-23, .115 x .063 x .040in Body, 6 Lead, .0375in in Pitch; RoHS: Y; PinCount: 6; Code_JEDEC: MO-178-AB; Code_IPC: SOT26A-6; ComponentLink1Description: Manufacturer URL; ComponentLink1URL: http://www.national.com/; ComponentLink2Description: LM3880 Datasheet; ComponentLink2URL: http://www.national.com/ds/LM/LM3880.pdf; ComponentLink3Description: LM3880 Web Page; ComponentLink3URL: http://www.national.com/pf/LM/LM3880.html; ComponentLink4Description: MF06A Package Page; ComponentLink4URL: http://www.national.com/packaging/folders/mf06a.html
footprint MF06A_N (SOT23, 6-Leads, Body 2.9x1.6mm, Pitch 0.95mm, Lead Span 2.8mm, IPC Medium Density)
footprint MF06A_L (SOT23, 6-Leads, Body 2.9x1.6mm, Pitch 0.95mm, Lead Span 2.8mm, IPC High Density)
footprint MF06A_M (SOT23, 6-Leads, Body 2.9x1.6mm, Pitch 0.95mm, Lead Span 2.8mm, IPC Low Density)
pins: 1 VCC (power), 2 GND (power), 3 EN (in), 4 FLAG3 (oc), 5 FLAG2 (oc), 6 FLAG1 (oc)

## LM3880MFX-1AA
designator U?
Power Sequencer, 6-pin SOT-23; PartNumber: LM3880MFX-1AA; Manufacturer: National Semiconductor; PackageTopMarking: F20A*XTT; PowerWise: N; CompType: MiscPower; High-Reliability: Y; DatasheetVersion: May-2008; PackageVersion: revC, Sep-2005; PackageReference: MF06A; PackageDescription: Molded SOT-23, .115 x .063 x .040in Body, 6 Lead, .0375in in Pitch; RoHS: N; PinCount: 6; Code_JEDEC: MO-178-AB; Code_IPC: SOT26A-6; ComponentLink1Description: Manufacturer URL; ComponentLink1URL: http://www.national.com/; ComponentLink2Description: LM3880 Datasheet; ComponentLink2URL: http://www.national.com/ds/LM/LM3880.pdf; ComponentLink3Description: LM3880 Web Page; ComponentLink3URL: http://www.national.com/pf/LM/LM3880.html; ComponentLink4Description: MF06A Package Page; ComponentLink4URL: http://www.national.com/packaging/folders/mf06a.html
footprint MF06A_N (SOT23, 6-Leads, Body 2.9x1.6mm, Pitch 0.95mm, Lead Span 2.8mm, IPC Medium Density)
footprint MF06A_L (SOT23, 6-Leads, Body 2.9x1.6mm, Pitch 0.95mm, Lead Span 2.8mm, IPC High Density)
footprint MF06A_M (SOT23, 6-Leads, Body 2.9x1.6mm, Pitch 0.95mm, Lead Span 2.8mm, IPC Low Density)
pins: 1 VCC (power), 2 GND (power), 3 EN (in), 4 FLAG3 (oc), 5 FLAG2 (oc), 6 FLAG1 (oc)

## LM3880MFX-1AA/NOPB
designator U?
Power Sequencer, 6-pin SOT-23, Pb-Free, 3000 Reel; PartNumber: LM3880MFX-1AA/NOPB; Manufacturer: National Semiconductor; PackageTopMarking: F20A*XTT; PowerWise: N; CompType: MiscPower; High-Reliability: Y; DatasheetVersion: Jul-2011; PackageVersion: revC, Sep-2005; PackageReference: MF06A; PackageDescription: Molded SOT-23, .115 x .063 x .040in Body, 6 Lead, .0375in in Pitch; RoHS: Y; PinCount: 6; Code_JEDEC: MO-178-AB; Code_IPC: SOT26A-6; ComponentLink1Description: Manufacturer URL; ComponentLink1URL: http://www.national.com/; ComponentLink2Description: LM3880 Datasheet; ComponentLink2URL: http://www.national.com/ds/LM/LM3880.pdf; ComponentLink3Description: LM3880 Web Page; ComponentLink3URL: http://www.national.com/pf/LM/LM3880.html; ComponentLink4Description: MF06A Package Page; ComponentLink4URL: http://www.national.com/packaging/folders/mf06a.html
footprint MF06A_N (SOT23, 6-Leads, Body 2.9x1.6mm, Pitch 0.95mm, Lead Span 2.8mm, IPC Medium Density)
footprint MF06A_L (SOT23, 6-Leads, Body 2.9x1.6mm, Pitch 0.95mm, Lead Span 2.8mm, IPC High Density)
footprint MF06A_M (SOT23, 6-Leads, Body 2.9x1.6mm, Pitch 0.95mm, Lead Span 2.8mm, IPC Low Density)
pins: 1 VCC (power), 2 GND (power), 3 EN (in), 4 FLAG3 (oc), 5 FLAG2 (oc), 6 FLAG1 (oc)

## LM3880MFX-1AB
designator U?
Power Sequencer, 6-pin SOT-23; PartNumber: LM3880MFX-1AB; Manufacturer: National Semiconductor; PackageTopMarking: F21A*XTT; PowerWise: N; CompType: MiscPower; High-Reliability: Y; DatasheetVersion: May-2008; PackageVersion: revC, Sep-2005; PackageReference: MF06A; PackageDescription: Molded SOT-23, .115 x .063 x .040in Body, 6 Lead, .0375in in Pitch; RoHS: N; PinCount: 6; Code_JEDEC: MO-178-AB; Code_IPC: SOT26A-6; ComponentLink1Description: Manufacturer URL; ComponentLink1URL: http://www.national.com/; ComponentLink2Description: LM3880 Datasheet; ComponentLink2URL: http://www.national.com/ds/LM/LM3880.pdf; ComponentLink3Description: LM3880 Web Page; ComponentLink3URL: http://www.national.com/pf/LM/LM3880.html; ComponentLink4Description: MF06A Package Page; ComponentLink4URL: http://www.national.com/packaging/folders/mf06a.html
footprint MF06A_N (SOT23, 6-Leads, Body 2.9x1.6mm, Pitch 0.95mm, Lead Span 2.8mm, IPC Medium Density)
footprint MF06A_L (SOT23, 6-Leads, Body 2.9x1.6mm, Pitch 0.95mm, Lead Span 2.8mm, IPC High Density)
footprint MF06A_M (SOT23, 6-Leads, Body 2.9x1.6mm, Pitch 0.95mm, Lead Span 2.8mm, IPC Low Density)
pins: 1 VCC (power), 2 GND (power), 3 EN (in), 4 FLAG3 (oc), 5 FLAG2 (oc), 6 FLAG1 (oc)

## LM3880MFX-1AB/NOPB
designator U?
Power Sequencer, 6-pin SOT-23, Pb-Free, 3000 Reel; PartNumber: LM3880MFX-1AB/NOPB; Manufacturer: National Semiconductor; PackageTopMarking: F21A*XTT; PowerWise: N; CompType: MiscPower; High-Reliability: Y; DatasheetVersion: Jul-2011; PackageVersion: revC, Sep-2005; PackageReference: MF06A; PackageDescription: Molded SOT-23, .115 x .063 x .040in Body, 6 Lead, .0375in in Pitch; RoHS: Y; PinCount: 6; Code_JEDEC: MO-178-AB; Code_IPC: SOT26A-6; ComponentLink1Description: Manufacturer URL; ComponentLink1URL: http://www.national.com/; ComponentLink2Description: LM3880 Datasheet; ComponentLink2URL: http://www.national.com/ds/LM/LM3880.pdf; ComponentLink3Description: LM3880 Web Page; ComponentLink3URL: http://www.national.com/pf/LM/LM3880.html; ComponentLink4Description: MF06A Package Page; ComponentLink4URL: http://www.national.com/packaging/folders/mf06a.html
footprint MF06A_N (SOT23, 6-Leads, Body 2.9x1.6mm, Pitch 0.95mm, Lead Span 2.8mm, IPC Medium Density)
footprint MF06A_L (SOT23, 6-Leads, Body 2.9x1.6mm, Pitch 0.95mm, Lead Span 2.8mm, IPC High Density)
footprint MF06A_M (SOT23, 6-Leads, Body 2.9x1.6mm, Pitch 0.95mm, Lead Span 2.8mm, IPC Low Density)
pins: 1 VCC (power), 2 GND (power), 3 EN (in), 4 FLAG3 (oc), 5 FLAG2 (oc), 6 FLAG1 (oc)

## LM3880MFX-1AC
designator U?
Power Sequencer, 6-pin SOT-23; PartNumber: LM3880MFX-1AC; Manufacturer: National Semiconductor; PackageTopMarking: F22A*XTT; PowerWise: N; CompType: MiscPower; High-Reliability: Y; DatasheetVersion: May-2008; PackageVersion: revC, Sep-2005; PackageReference: MF06A; PackageDescription: Molded SOT-23, .115 x .063 x .040in Body, 6 Lead, .0375in in Pitch; RoHS: N; PinCount: 6; Code_JEDEC: MO-178-AB; Code_IPC: SOT26A-6; ComponentLink1Description: Manufacturer URL; ComponentLink1URL: http://www.national.com/; ComponentLink2Description: LM3880 Datasheet; ComponentLink2URL: http://www.national.com/ds/LM/LM3880.pdf; ComponentLink3Description: LM3880 Web Page; ComponentLink3URL: http://www.national.com/pf/LM/LM3880.html; ComponentLink4Description: MF06A Package Page; ComponentLink4URL: http://www.national.com/packaging/folders/mf06a.html
footprint MF06A_N (SOT23, 6-Leads, Body 2.9x1.6mm, Pitch 0.95mm, Lead Span 2.8mm, IPC Medium Density)
footprint MF06A_L (SOT23, 6-Leads, Body 2.9x1.6mm, Pitch 0.95mm, Lead Span 2.8mm, IPC High Density)
footprint MF06A_M (SOT23, 6-Leads, Body 2.9x1.6mm, Pitch 0.95mm, Lead Span 2.8mm, IPC Low Density)
pins: 1 VCC (power), 2 GND (power), 3 EN (in), 4 FLAG3 (oc), 5 FLAG2 (oc), 6 FLAG1 (oc)

## LM3880MFX-1AC/NOPB
designator U?
Power Sequencer, 6-pin SOT-23, Pb-Free, 3000 Reel; PartNumber: LM3880MFX-1AC/NOPB; Manufacturer: National Semiconductor; PackageTopMarking: F22A*XTT; PowerWise: N; CompType: MiscPower; High-Reliability: Y; DatasheetVersion: Jul-2011; PackageVersion: revC, Sep-2005; PackageReference: MF06A; PackageDescription: Molded SOT-23, .115 x .063 x .040in Body, 6 Lead, .0375in in Pitch; RoHS: Y; PinCount: 6; Code_JEDEC: MO-178-AB; Code_IPC: SOT26A-6; ComponentLink1Description: Manufacturer URL; ComponentLink1URL: http://www.national.com/; ComponentLink2Description: LM3880 Datasheet; ComponentLink2URL: http://www.national.com/ds/LM/LM3880.pdf; ComponentLink3Description: LM3880 Web Page; ComponentLink3URL: http://www.national.com/pf/LM/LM3880.html; ComponentLink4Description: MF06A Package Page; ComponentLink4URL: http://www.national.com/packaging/folders/mf06a.html
footprint MF06A_N (SOT23, 6-Leads, Body 2.9x1.6mm, Pitch 0.95mm, Lead Span 2.8mm, IPC Medium Density)
footprint MF06A_L (SOT23, 6-Leads, Body 2.9x1.6mm, Pitch 0.95mm, Lead Span 2.8mm, IPC High Density)
footprint MF06A_M (SOT23, 6-Leads, Body 2.9x1.6mm, Pitch 0.95mm, Lead Span 2.8mm, IPC Low Density)
pins: 1 VCC (power), 2 GND (power), 3 EN (in), 4 FLAG3 (oc), 5 FLAG2 (oc), 6 FLAG1 (oc)

## LM3880MFX-1AD
designator U?
Power Sequencer, 6-pin SOT-23; PartNumber: LM3880MFX-1AD; Manufacturer: National Semiconductor; PackageTopMarking: F23A*XTT; PowerWise: N; CompType: MiscPower; High-Reliability: Y; DatasheetVersion: May-2008; PackageVersion: revC, Sep-2005; PackageReference: MF06A; PackageDescription: Molded SOT-23, .115 x .063 x .040in Body, 6 Lead, .0375in in Pitch; RoHS: N; PinCount: 6; Code_JEDEC: MO-178-AB; Code_IPC: SOT26A-6; ComponentLink1Description: Manufacturer URL; ComponentLink1URL: http://www.national.com/; ComponentLink2Description: LM3880 Datasheet; ComponentLink2URL: http://www.national.com/ds/LM/LM3880.pdf; ComponentLink3Description: LM3880 Web Page; ComponentLink3URL: http://www.national.com/pf/LM/LM3880.html; ComponentLink4Description: MF06A Package Page; ComponentLink4URL: http://www.national.com/packaging/folders/mf06a.html
footprint MF06A_N (SOT23, 6-Leads, Body 2.9x1.6mm, Pitch 0.95mm, Lead Span 2.8mm, IPC Medium Density)
footprint MF06A_L (SOT23, 6-Leads, Body 2.9x1.6mm, Pitch 0.95mm, Lead Span 2.8mm, IPC High Density)
footprint MF06A_M (SOT23, 6-Leads, Body 2.9x1.6mm, Pitch 0.95mm, Lead Span 2.8mm, IPC Low Density)
pins: 1 VCC (power), 2 GND (power), 3 EN (in), 4 FLAG3 (oc), 5 FLAG2 (oc), 6 FLAG1 (oc)

## LM3880MFX-1AD/NOPB
designator U?
Power Sequencer, 6-pin SOT-23, Pb-Free, 3000 Reel; PartNumber: LM3880MFX-1AD/NOPB; Manufacturer: National Semiconductor; PackageTopMarking: F23A*XTT; PowerWise: N; CompType: MiscPower; High-Reliability: Y; DatasheetVersion: Jul-2011; PackageVersion: revC, Sep-2005; PackageReference: MF06A; PackageDescription: Molded SOT-23, .115 x .063 x .040in Body, 6 Lead, .0375in in Pitch; RoHS: Y; PinCount: 6; Code_JEDEC: MO-178-AB; Code_IPC: SOT26A-6; ComponentLink1Description: Manufacturer URL; ComponentLink1URL: http://www.national.com/; ComponentLink2Description: LM3880 Datasheet; ComponentLink2URL: http://www.national.com/ds/LM/LM3880.pdf; ComponentLink3Description: LM3880 Web Page; ComponentLink3URL: http://www.national.com/pf/LM/LM3880.html; ComponentLink4Description: MF06A Package Page; ComponentLink4URL: http://www.national.com/packaging/folders/mf06a.html
footprint MF06A_N (SOT23, 6-Leads, Body 2.9x1.6mm, Pitch 0.95mm, Lead Span 2.8mm, IPC Medium Density)
footprint MF06A_L (SOT23, 6-Leads, Body 2.9x1.6mm, Pitch 0.95mm, Lead Span 2.8mm, IPC High Density)
footprint MF06A_M (SOT23, 6-Leads, Body 2.9x1.6mm, Pitch 0.95mm, Lead Span 2.8mm, IPC Low Density)
pins: 1 VCC (power), 2 GND (power), 3 EN (in), 4 FLAG3 (oc), 5 FLAG2 (oc), 6 FLAG1 (oc)

## LM3880MFX-1AE/NOPB
designator U?
Power Sequencer, 6-pin SOT-23, Pb-Free, 3000 Reel; PartNumber: LM3880MFX-1AE/NOPB; Manufacturer: National Semiconductor; PackageTopMarking: F25A*XTT; PowerWise: N; CompType: MiscPower; High-Reliability: Y; DatasheetVersion: Jul-2011; PackageVersion: revC, Sep-2005; PackageReference: MF06A; PackageDescription: Molded SOT-23, .115 x .063 x .040in Body, 6 Lead, .0375in in Pitch; RoHS: Y; PinCount: 6; Code_JEDEC: MO-178-AB; Code_IPC: SOT26A-6; ComponentLink1Description: Manufacturer URL; ComponentLink1URL: http://www.national.com/; ComponentLink2Description: LM3880 Datasheet; ComponentLink2URL: http://www.national.com/ds/LM/LM3880.pdf; ComponentLink3Description: LM3880 Web Page; ComponentLink3URL: http://www.national.com/pf/LM/LM3880.html; ComponentLink4Description: MF06A Package Page; ComponentLink4URL: http://www.national.com/packaging/folders/mf06a.html
footprint MF06A_N (SOT23, 6-Leads, Body 2.9x1.6mm, Pitch 0.95mm, Lead Span 2.8mm, IPC Medium Density)
footprint MF06A_L (SOT23, 6-Leads, Body 2.9x1.6mm, Pitch 0.95mm, Lead Span 2.8mm, IPC High Density)
footprint MF06A_M (SOT23, 6-Leads, Body 2.9x1.6mm, Pitch 0.95mm, Lead Span 2.8mm, IPC Low Density)
pins: 1 VCC (power), 2 GND (power), 3 EN (in), 4 FLAG3 (oc), 5 FLAG2 (oc), 6 FLAG1 (oc)

## LM3880MFX-1AF/NOPB
designator U?
Power Sequencer, 6-pin SOT-23, 3000 Reel; PartNumber: LM3880MFX-1AF/NOPB; Manufacturer: National Semiconductor; PackageTopMarking: F31A*XTT; PowerWise: N; CompType: MiscPower; High-Reliability: Y; DatasheetVersion: Jul-2011; PackageVersion: revC, Sep-2005; PackageReference: MF06A; PackageDescription: Molded SOT-23, .115 x .063 x .040in Body, 6 Lead, .0375in in Pitch; RoHS: Y; PinCount: 6; Code_JEDEC: MO-178-AB; Code_IPC: SOT26A-6; ComponentLink1Description: Manufacturer URL; ComponentLink1URL: http://www.national.com/; ComponentLink2Description: LM3880 Datasheet; ComponentLink2URL: http://www.national.com/ds/LM/LM3880.pdf; ComponentLink3Description: LM3880 Web Page; ComponentLink3URL: http://www.national.com/pf/LM/LM3880.html; ComponentLink4Description: MF06A Package Page; ComponentLink4URL: http://www.national.com/packaging/folders/mf06a.html
footprint MF06A_N (SOT23, 6-Leads, Body 2.9x1.6mm, Pitch 0.95mm, Lead Span 2.8mm, IPC Medium Density)
footprint MF06A_L (SOT23, 6-Leads, Body 2.9x1.6mm, Pitch 0.95mm, Lead Span 2.8mm, IPC High Density)
footprint MF06A_M (SOT23, 6-Leads, Body 2.9x1.6mm, Pitch 0.95mm, Lead Span 2.8mm, IPC Low Density)
pins: 1 VCC (power), 2 GND (power), 3 EN (in), 4 FLAG3 (oc), 5 FLAG2 (oc), 6 FLAG1 (oc)

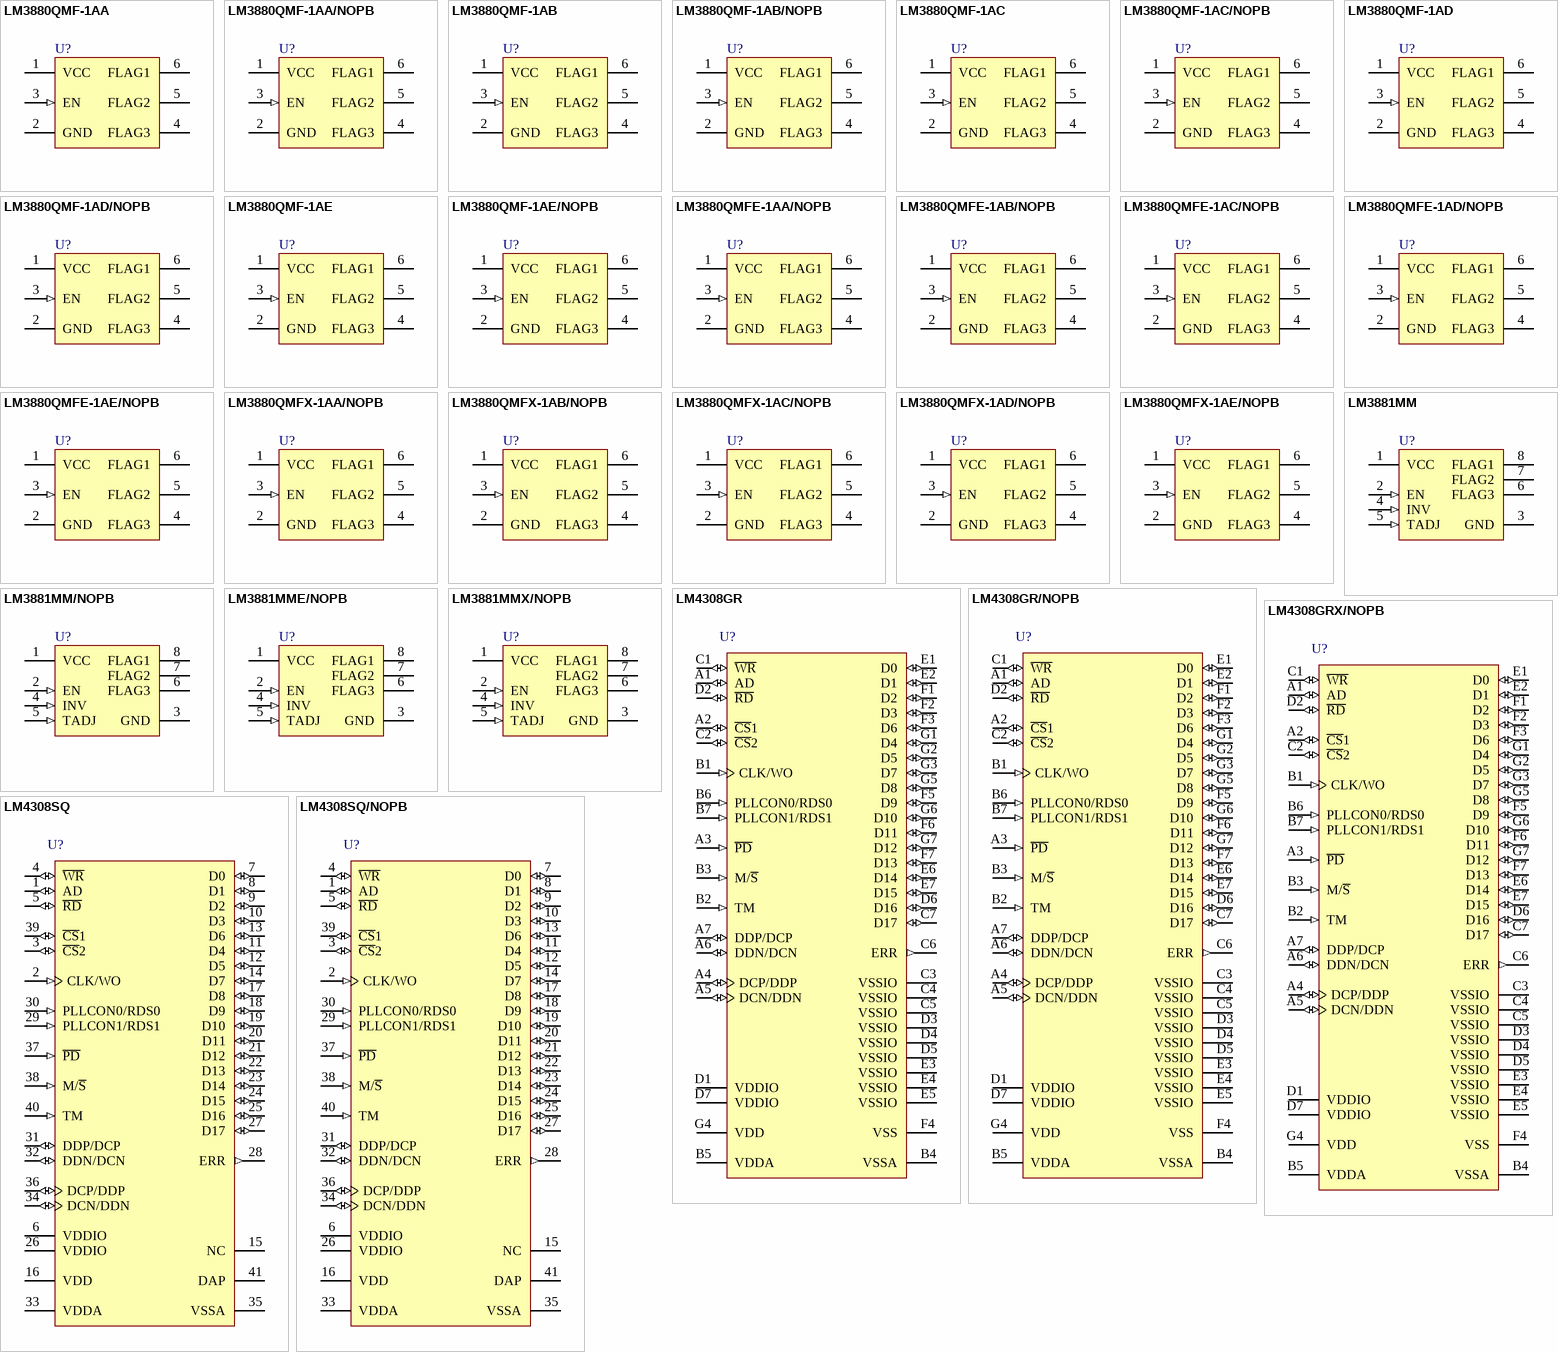
[diagram p25: symbols LM3880QMF-1AA to LM4308SQ/NOPB]

## LM3880QMF-1AA
designator U?
Power Sequencer, Automotive Grade 1, 6-pin SOT-23; PartNumber: LM3880QMF-1AA; Manufacturer: National Semiconductor; PackageTopMarking: F27A*XTT; PowerWise: N; CompType: MiscPower; High-Reliability: Y; DatasheetVersion: Jul-2011; PackageVersion: revC, Sep-2005; PackageReference: MF06A; PackageDescription: Molded SOT-23, .115 x .063 x .040in Body, 6 Lead, .0375in in Pitch; RoHS: Y; PinCount: 6; Code_JEDEC: MO-178-AB; Code_IPC: SOT26A-6; ComponentLink1Description: Manufacturer URL; ComponentLink1URL: http://www.national.com/; ComponentLink2Description: LM3880Q Datasheet; ComponentLink2URL: http://www.national.com/ds/LM/LM3880.pdf; ComponentLink3Description: LM3880Q Web Page; ComponentLink3URL: http://www.national.com/pf/LM/LM3880Q.html; ComponentLink4Description: MF06A Package Page; ComponentLink4URL: http://www.national.com/packaging/folders/mf06a.html
footprint MF06A_N (SOT23, 6-Leads, Body 2.9x1.6mm, Pitch 0.95mm, Lead Span 2.8mm, IPC Medium Density)
footprint MF06A_L (SOT23, 6-Leads, Body 2.9x1.6mm, Pitch 0.95mm, Lead Span 2.8mm, IPC High Density)
footprint MF06A_M (SOT23, 6-Leads, Body 2.9x1.6mm, Pitch 0.95mm, Lead Span 2.8mm, IPC Low Density)
pins: 1 VCC (power), 2 GND (power), 3 EN (in), 4 FLAG3 (oc), 5 FLAG2 (oc), 6 FLAG1 (oc)

## LM3880QMF-1AA/NOPB
designator U?
Power Sequencer, Automotive Grade 1, 6-pin SOT-23, Pb-Free, 1000 Reel; PartNumber: LM3880QMF-1AA/NOPB; Manufacturer: National Semiconductor; PackageTopMarking: F27A*XTT; PowerWise: N; CompType: MiscPower; High-Reliability: Y; DatasheetVersion: Jul-2011; PackageVersion: revC, Sep-2005; PackageReference: MF06A; PackageDescription: Molded SOT-23, .115 x .063 x .040in Body, 6 Lead, .0375in in Pitch; RoHS: Y; PinCount: 6; Code_JEDEC: MO-178-AB; Code_IPC: SOT26A-6; ComponentLink1Description: Manufacturer URL; ComponentLink1URL: http://www.national.com/; ComponentLink2Description: LM3880Q Datasheet; ComponentLink2URL: http://www.national.com/ds/LM/LM3880.pdf; ComponentLink3Description: LM3880Q Web Page; ComponentLink3URL: http://www.national.com/pf/LM/LM3880Q.html; ComponentLink4Description: MF06A Package Page; ComponentLink4URL: http://www.national.com/packaging/folders/mf06a.html
footprint MF06A_N (SOT23, 6-Leads, Body 2.9x1.6mm, Pitch 0.95mm, Lead Span 2.8mm, IPC Medium Density)
footprint MF06A_L (SOT23, 6-Leads, Body 2.9x1.6mm, Pitch 0.95mm, Lead Span 2.8mm, IPC High Density)
footprint MF06A_M (SOT23, 6-Leads, Body 2.9x1.6mm, Pitch 0.95mm, Lead Span 2.8mm, IPC Low Density)
pins: 1 VCC (power), 2 GND (power), 3 EN (in), 4 FLAG3 (oc), 5 FLAG2 (oc), 6 FLAG1 (oc)

## LM3880QMF-1AB
designator U?
Power Sequencer, Automotive Grade 1, 6-pin SOT-23; PartNumber: LM3880QMF-1AB; Manufacturer: National Semiconductor; PackageTopMarking: F28A*XTT; PowerWise: N; CompType: MiscPower; High-Reliability: Y; DatasheetVersion: Jul-2011; PackageVersion: revC, Sep-2005; PackageReference: MF06A; PackageDescription: Molded SOT-23, .115 x .063 x .040in Body, 6 Lead, .0375in in Pitch; RoHS: Y; PinCount: 6; Code_JEDEC: MO-178-AB; Code_IPC: SOT26A-6; ComponentLink1Description: Manufacturer URL; ComponentLink1URL: http://www.national.com/; ComponentLink2Description: LM3880Q Datasheet; ComponentLink2URL: http://www.national.com/ds/LM/LM3880.pdf; ComponentLink3Description: LM3880Q Web Page; ComponentLink3URL: http://www.national.com/pf/LM/LM3880Q.html; ComponentLink4Description: MF06A Package Page; ComponentLink4URL: http://www.national.com/packaging/folders/mf06a.html
footprint MF06A_N (SOT23, 6-Leads, Body 2.9x1.6mm, Pitch 0.95mm, Lead Span 2.8mm, IPC Medium Density)
footprint MF06A_L (SOT23, 6-Leads, Body 2.9x1.6mm, Pitch 0.95mm, Lead Span 2.8mm, IPC High Density)
footprint MF06A_M (SOT23, 6-Leads, Body 2.9x1.6mm, Pitch 0.95mm, Lead Span 2.8mm, IPC Low Density)
pins: 1 VCC (power), 2 GND (power), 3 EN (in), 4 FLAG3 (oc), 5 FLAG2 (oc), 6 FLAG1 (oc)